# EAGLE library part CONN_4PX2 (library chip)
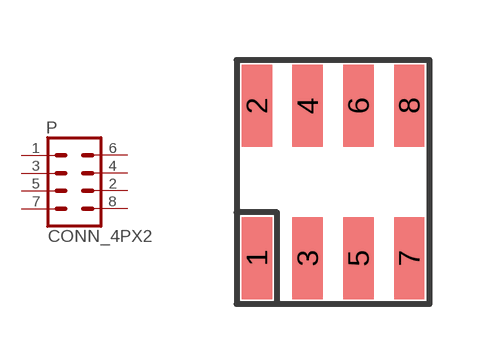
[diagram p7: symbol with the pads of CONN_4PX2_1.27MM; footprint CONN_4PX2_1.27MM]

Designator prefix P

## CONN_4PX2_1.27MM  [CONN_4PX2_1.27MM]
1  1  pas
2  6  pas
3  3  pas
4  4  pas
5  5  pas
6  2  pas
7  7  pas
8  8  pas

## Footprint CONN_4PX2_1.27MM (pad centres in mm)
smd 0.76 x 2.05: 1 0,0; 2 0,3.81; 3 1.27,0; 4 1.27,3.81; 5 2.54,0; 6 2.54,3.81; 7 3.81,0; 8 3.81,3.81